# EAGLE library part B78476A8065A003 (library B78476A8065A003)
EPCOS - B78476A8065A003 - TRANSFORMER, LAN, SINGLE, 10/100 BASE T Source: Datasheet <https://componentsearchengine.com/Datasheets/1/B78476A8065A003.pdf>
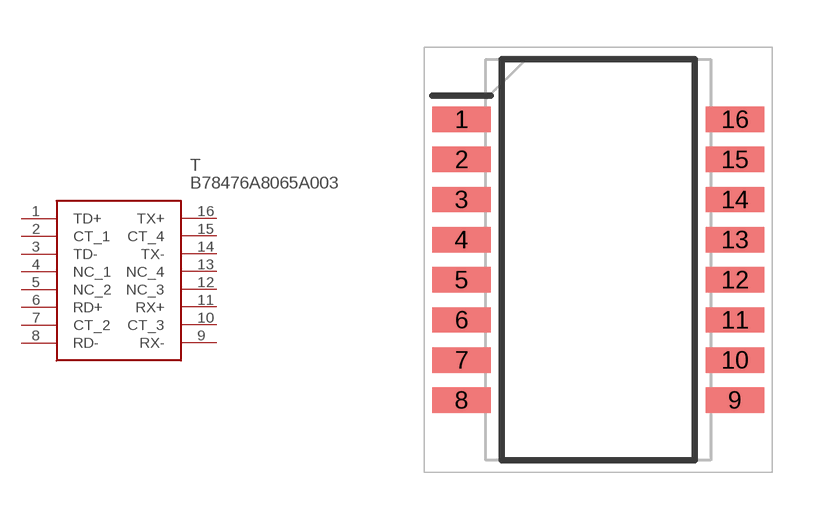
[diagram p0: symbol with the pads of SOIC127P940X585-16N; footprint SOIC127P940X585-16N]

Designator prefix T

## B78476A8065A003 (Description: EPCOS - B78476A8065A003 - TRANSFORMER, LAN, SINGLE, 10/100 BASE T; Height: 5.85mm; Manufacturer_Name: EPCOS; Manufacturer_Part_Number: B78476A8065A003; Mouser_Part_Number: 871-B78476A8065A3; Mouser_Price-Stock: https://www.mouser.com/Search/Refine.aspx?Keyword=871-B78476A8065A3)  [SOIC127P940X585-16N]
1  TD+
2  CT_1
3  TD-
4  NC_1
5  NC_2
6  RD+
7  CT_2
8  RD-
9  RX-
10  CT_3
11  RX+
12  NC_3
13  NC_4
14  TX-
15  CT_4
16  TX+

## Footprint SOIC127P940X585-16N (pad centres in mm)
B78476A8065A003
smd 1.85 x 0.8: 1 -4.325,4.445; 2 -4.325,3.175; 3 -4.325,1.905; 4 -4.325,0.635; 5 -4.325,-0.635; 6 -4.325,-1.905; 7 -4.325,-3.175; 8 -4.325,-4.445; 9 4.325,-4.445; 10 4.325,-3.175; 11 4.325,-1.905; 12 4.325,-0.635; 13 4.325,0.635; 14 4.325,1.905; 15 4.325,3.175; 16 4.325,4.445